# Altium integrated library IR Rectifier - Standard Recovery.IntLib: 457 symbols (part 1 of 5)
Pins are listed as number, name and electrical type; pins without a type are passive.

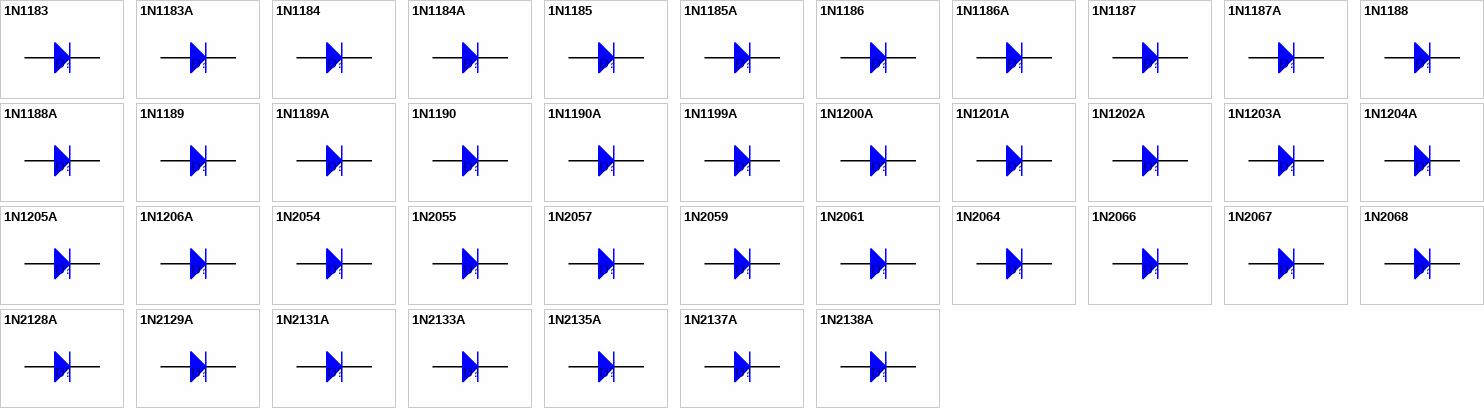
[diagram p0: symbols 1N1183 to 1N2138A]

## 1N1183
designator D?
Silicon Rectifier Diode; Note: No PCB Footprint Available; Published: 8-Jun-2000; LatestRevisionDate: 17-Jul-2002; LatestRevisionNote: Re-released for DXP Platform.; DatasheetDocument: PD-2.087; PackageReference: DO-203AB; Publisher: Altium Limited; ComponentLink1Description: Manufacturer Link; ComponentLink1URL: http://www.irf.com/; ComponentLink2Description: Datasheet; ComponentLink2URL: http://www.irf.com/product-info/datasheets/data/1n1183.pdf
simulation model 1N1183 (DIODE)
signal-integrity model 1N1183
pins: 1 A, 2 K

## 1N1183A
designator D?
Silicon Rectifier Diode; Note: No PCB Footprint Available; Published: 8-Jun-2000; LatestRevisionDate: 17-Jul-2002; LatestRevisionNote: Re-released for DXP Platform.; DatasheetDocument: PD-2.087; PackageReference: DO-203AB; Publisher: Altium Limited; ComponentLink1Description: Manufacturer Link; ComponentLink1URL: http://www.irf.com/; ComponentLink2Description: Datasheet; ComponentLink2URL: http://www.irf.com/product-info/datasheets/data/1n1183.pdf
simulation model 1N1183A (DIODE)
signal-integrity model 1N1183A
pins: 1 A, 2 K

## 1N1184
designator D?
Silicon Rectifier Diode; Note: No PCB Footprint Available; Published: 8-Jun-2000; LatestRevisionDate: 17-Jul-2002; LatestRevisionNote: Re-released for DXP Platform.; DatasheetDocument: PD-2.087; PackageReference: DO-203AB; Publisher: Altium Limited; ComponentLink1Description: Manufacturer Link; ComponentLink1URL: http://www.irf.com/; ComponentLink2Description: Datasheet; ComponentLink2URL: http://www.irf.com/product-info/datasheets/data/1n1183.pdf
simulation model 1N1184 (DIODE)
signal-integrity model 1N1184
pins: 1 A, 2 K

## 1N1184A
designator D?
Silicon Rectifier Diode; Note: No PCB Footprint Available; Published: 8-Jun-2000; LatestRevisionDate: 17-Jul-2002; LatestRevisionNote: Re-released for DXP Platform.; DatasheetDocument: PD-2.087; PackageReference: DO-203AB; Publisher: Altium Limited; ComponentLink1Description: Manufacturer Link; ComponentLink1URL: http://www.irf.com/; ComponentLink2Description: Datasheet; ComponentLink2URL: http://www.irf.com/product-info/datasheets/data/1n1183.pdf
simulation model 1N1184A (DIODE)
signal-integrity model 1N1184A
pins: 1 A, 2 K

## 1N1185
designator D?
Silicon Rectifier Diode; Note: No PCB Footprint Available; Published: 8-Jun-2000; LatestRevisionDate: 17-Jul-2002; LatestRevisionNote: Re-released for DXP Platform.; DatasheetDocument: PD-2.087; PackageReference: DO-203AB; Publisher: Altium Limited; ComponentLink1Description: Manufacturer Link; ComponentLink1URL: http://www.irf.com/; ComponentLink2Description: Datasheet; ComponentLink2URL: http://www.irf.com/product-info/datasheets/data/1n1183.pdf
simulation model 1N1185 (DIODE)
signal-integrity model 1N1185
pins: 1 A, 2 K

## 1N1185A
designator D?
Silicon Rectifier Diode; Note: No PCB Footprint Available; Published: 8-Jun-2000; LatestRevisionDate: 17-Jul-2002; LatestRevisionNote: Re-released for DXP Platform.; DatasheetDocument: PD-2.087; PackageReference: DO-203AB; Publisher: Altium Limited; ComponentLink1Description: Manufacturer Link; ComponentLink1URL: http://www.irf.com/; ComponentLink2Description: Datasheet; ComponentLink2URL: http://www.irf.com/product-info/datasheets/data/1n1183.pdf
simulation model 1N1185A (DIODE)
signal-integrity model 1N1185A
pins: 1 A, 2 K

## 1N1186
designator D?
Silicon Rectifier Diode; Note: No PCB Footprint Available; Published: 8-Jun-2000; LatestRevisionDate: 17-Jul-2002; LatestRevisionNote: Re-released for DXP Platform.; DatasheetDocument: PD-2.087; PackageReference: DO-203AB; Publisher: Altium Limited; ComponentLink1Description: Manufacturer Link; ComponentLink1URL: http://www.irf.com/; ComponentLink2Description: Datasheet; ComponentLink2URL: http://www.irf.com/product-info/datasheets/data/1n1183.pdf
simulation model 1N1186 (DIODE)
signal-integrity model 1N1186
pins: 1 A, 2 K

## 1N1186A
designator D?
Silicon Rectifier Diode; Note: No PCB Footprint Available; Published: 8-Jun-2000; LatestRevisionDate: 17-Jul-2002; LatestRevisionNote: Re-released for DXP Platform.; DatasheetDocument: PD-2.087; PackageReference: DO-203AB; Publisher: Altium Limited; ComponentLink1Description: Manufacturer Link; ComponentLink1URL: http://www.irf.com/; ComponentLink2Description: Datasheet; ComponentLink2URL: http://www.irf.com/product-info/datasheets/data/1n1183.pdf
simulation model 1N1186A (DIODE)
signal-integrity model 1N1186A
pins: 1 A, 2 K

## 1N1187
designator D?
Silicon Rectifier Diode; Note: No PCB Footprint Available; Published: 8-Jun-2000; LatestRevisionDate: 17-Jul-2002; LatestRevisionNote: Re-released for DXP Platform.; DatasheetDocument: PD-2.087; PackageReference: DO-203AB; Publisher: Altium Limited; ComponentLink1Description: Manufacturer Link; ComponentLink1URL: http://www.irf.com/; ComponentLink2Description: Datasheet; ComponentLink2URL: http://www.irf.com/product-info/datasheets/data/1n1183.pdf
simulation model 1N1187 (DIODE)
signal-integrity model 1N1187
pins: 1 A, 2 K

## 1N1187A
designator D?
Silicon Rectifier Diode; Note: No PCB Footprint Available; Published: 8-Jun-2000; LatestRevisionDate: 17-Jul-2002; LatestRevisionNote: Re-released for DXP Platform.; DatasheetDocument: PD-2.087; PackageReference: DO-203AB; Publisher: Altium Limited; ComponentLink1Description: Manufacturer Link; ComponentLink1URL: http://www.irf.com/; ComponentLink2Description: Datasheet; ComponentLink2URL: http://www.irf.com/product-info/datasheets/data/1n1183.pdf
simulation model 1N1187A (DIODE)
signal-integrity model 1N1187A
pins: 1 A, 2 K

## 1N1188
designator D?
Silicon Rectifier Diode; Note: No PCB Footprint Available; Published: 8-Jun-2000; LatestRevisionDate: 17-Jul-2002; LatestRevisionNote: Re-released for DXP Platform.; DatasheetDocument: PD-2.087; PackageReference: DO-203AB; Publisher: Altium Limited; ComponentLink1Description: Manufacturer Link; ComponentLink1URL: http://www.irf.com/; ComponentLink2Description: Datasheet; ComponentLink2URL: http://www.irf.com/product-info/datasheets/data/1n1183.pdf
simulation model 1N1188 (DIODE)
signal-integrity model 1N1188
pins: 1 A, 2 K

## 1N1188A
designator D?
Silicon Rectifier Diode; Note: No PCB Footprint Available; Published: 8-Jun-2000; LatestRevisionDate: 17-Jul-2002; LatestRevisionNote: Re-released for DXP Platform.; DatasheetDocument: PD-2.087; PackageReference: DO-203AB; Publisher: Altium Limited; ComponentLink1Description: Manufacturer Link; ComponentLink1URL: http://www.irf.com/; ComponentLink2Description: Datasheet; ComponentLink2URL: http://www.irf.com/product-info/datasheets/data/1n1183.pdf
simulation model 1N1188A (DIODE)
signal-integrity model 1N1188A
pins: 1 A, 2 K

## 1N1189
designator D?
Silicon Rectifier Diode; Note: No PCB Footprint Available; Published: 8-Jun-2000; LatestRevisionDate: 17-Jul-2002; LatestRevisionNote: Re-released for DXP Platform.; DatasheetDocument: PD-2.087; PackageReference: DO-203AB; Publisher: Altium Limited; ComponentLink1Description: Manufacturer Link; ComponentLink1URL: http://www.irf.com/; ComponentLink2Description: Datasheet; ComponentLink2URL: http://www.irf.com/product-info/datasheets/data/1n1183.pdf
simulation model 1N1189 (DIODE)
signal-integrity model 1N1189
pins: 1 A, 2 K

## 1N1189A
designator D?
Silicon Rectifier Diode; Note: No PCB Footprint Available; Published: 8-Jun-2000; LatestRevisionDate: 17-Jul-2002; LatestRevisionNote: Re-released for DXP Platform.; DatasheetDocument: PD-2.087; PackageReference: DO-203AB; Publisher: Altium Limited; ComponentLink1Description: Manufacturer Link; ComponentLink1URL: http://www.irf.com/; ComponentLink2Description: Datasheet; ComponentLink2URL: http://www.irf.com/product-info/datasheets/data/1n1183.pdf
simulation model 1N1189A (DIODE)
signal-integrity model 1N1189A
pins: 1 A, 2 K

## 1N1190
designator D?
Silicon Rectifier Diode; Note: No PCB Footprint Available; Published: 8-Jun-2000; LatestRevisionDate: 17-Jul-2002; LatestRevisionNote: Re-released for DXP Platform.; DatasheetDocument: PD-2.087; PackageReference: DO-203AB; Publisher: Altium Limited; ComponentLink1Description: Manufacturer Link; ComponentLink1URL: http://www.irf.com/; ComponentLink2Description: Datasheet; ComponentLink2URL: http://www.irf.com/product-info/datasheets/data/1n1183.pdf
simulation model 1N1190 (DIODE)
signal-integrity model 1N1190
pins: 1 A, 2 K

## 1N1190A
designator D?
Silicon Rectifier Diode; Note: No PCB Footprint Available; Published: 8-Jun-2000; LatestRevisionDate: 17-Jul-2002; LatestRevisionNote: Re-released for DXP Platform.; DatasheetDocument: PD-2.087; PackageReference: DO-203AB; Publisher: Altium Limited; ComponentLink1Description: Manufacturer Link; ComponentLink1URL: http://www.irf.com/; ComponentLink2Description: Datasheet; ComponentLink2URL: http://www.irf.com/product-info/datasheets/data/1n1183.pdf
simulation model 1N1190A (DIODE)
signal-integrity model 1N1190A
pins: 1 A, 2 K

## 1N1199A
designator D?
12 Amp Medium Power Silicon Rectifier Diode; Note: No PCB Footprint Available; Published: 8-Jun-2000; LatestRevisionDate: 17-Jul-2002; LatestRevisionNote: Re-released for DXP Platform.; DatasheetDocument: PD-2.084; PackageReference: DO-203AA; Publisher: Altium Limited; ComponentLink1Description: Manufacturer Link; ComponentLink1URL: http://www.irf.com/; ComponentLink2Description: Datasheet; ComponentLink2URL: http://www.irf.com/product-info/datasheets/data/1n1199a.pdf
simulation model 1N1199A (DIODE)
signal-integrity model 1N1199A
pins: 1 A, 2 K

## 1N1200A
designator D?
12 Amp Medium Power Silicon Rectifier Diode; Note: No PCB Footprint Available; Published: 8-Jun-2000; LatestRevisionDate: 17-Jul-2002; LatestRevisionNote: Re-released for DXP Platform.; DatasheetDocument: PD-2.084; PackageReference: DO-203AA; Publisher: Altium Limited; ComponentLink1Description: Manufacturer Link; ComponentLink1URL: http://www.irf.com/; ComponentLink2Description: Datasheet; ComponentLink2URL: http://www.irf.com/product-info/datasheets/data/1n1199a.pdf
simulation model 1N1200A (DIODE)
signal-integrity model 1N1200A
pins: 1 A, 2 K

## 1N1201A
designator D?
12 Amp Medium Power Silicon Rectifier Diode; Note: No PCB Footprint Available; Published: 8-Jun-2000; LatestRevisionDate: 17-Jul-2002; LatestRevisionNote: Re-released for DXP Platform.; DatasheetDocument: PD-2.084; PackageReference: DO-203AA; Publisher: Altium Limited; ComponentLink1Description: Manufacturer Link; ComponentLink1URL: http://www.irf.com/; ComponentLink2Description: Datasheet; ComponentLink2URL: http://www.irf.com/product-info/datasheets/data/1n1199a.pdf
simulation model 1N1201A (DIODE)
signal-integrity model 1N1201A
pins: 1 A, 2 K

## 1N1202A
designator D?
12 Amp Medium Power Silicon Rectifier Diode; Note: No PCB Footprint Available; Published: 8-Jun-2000; LatestRevisionDate: 17-Jul-2002; LatestRevisionNote: Re-released for DXP Platform.; DatasheetDocument: PD-2.084; PackageReference: DO-203AA; Publisher: Altium Limited; ComponentLink1Description: Manufacturer Link; ComponentLink1URL: http://www.irf.com/; ComponentLink2Description: Datasheet; ComponentLink2URL: http://www.irf.com/product-info/datasheets/data/1n1199a.pdf
simulation model 1N1202A (DIODE)
signal-integrity model 1N1202A
pins: 1 A, 2 K

## 1N1203A
designator D?
12 Amp Medium Power Silicon Rectifier Diode; Note: No PCB Footprint Available; Published: 8-Jun-2000; LatestRevisionDate: 17-Jul-2002; LatestRevisionNote: Re-released for DXP Platform.; DatasheetDocument: PD-2.084; PackageReference: DO-203AA; Publisher: Altium Limited; ComponentLink1Description: Manufacturer Link; ComponentLink1URL: http://www.irf.com/; ComponentLink2Description: Datasheet; ComponentLink2URL: http://www.irf.com/product-info/datasheets/data/1n1199a.pdf
simulation model 1N1203A (DIODE)
signal-integrity model 1N1203A
pins: 1 A, 2 K

## 1N1204A
designator D?
12 Amp Medium Power Silicon Rectifier Diode; Note: No PCB Footprint Available; Published: 8-Jun-2000; LatestRevisionDate: 17-Jul-2002; LatestRevisionNote: Re-released for DXP Platform.; DatasheetDocument: PD-2.084; PackageReference: DO-203AA; Publisher: Altium Limited; ComponentLink1Description: Manufacturer Link; ComponentLink1URL: http://www.irf.com/; ComponentLink2Description: Datasheet; ComponentLink2URL: http://www.irf.com/product-info/datasheets/data/1n1199a.pdf
simulation model 1N1204A (DIODE)
signal-integrity model 1N1204A
pins: 1 A, 2 K

## 1N1205A
designator D?
12 Amp Medium Power Silicon Rectifier Diode; Note: No PCB Footprint Available; Published: 8-Jun-2000; LatestRevisionDate: 17-Jul-2002; LatestRevisionNote: Re-released for DXP Platform.; DatasheetDocument: PD-2.084; PackageReference: DO-203AA; Publisher: Altium Limited; ComponentLink1Description: Manufacturer Link; ComponentLink1URL: http://www.irf.com/; ComponentLink2Description: Datasheet; ComponentLink2URL: http://www.irf.com/product-info/datasheets/data/1n1199a.pdf
simulation model 1N1205A (DIODE)
signal-integrity model 1N1205A
pins: 1 A, 2 K

## 1N1206A
designator D?
12 Amp Medium Power Silicon Rectifier Diode; Note: No PCB Footprint Available; Published: 8-Jun-2000; LatestRevisionDate: 17-Jul-2002; LatestRevisionNote: Re-released for DXP Platform.; DatasheetDocument: PD-2.084; PackageReference: DO-203AA; Publisher: Altium Limited; ComponentLink1Description: Manufacturer Link; ComponentLink1URL: http://www.irf.com/; ComponentLink2Description: Datasheet; ComponentLink2URL: http://www.irf.com/product-info/datasheets/data/1n1199a.pdf
simulation model 1N1206A (DIODE)
signal-integrity model 1N1206A
pins: 1 A, 2 K

## 1N2054
designator D?
250 Amp Avg Power Silicon Rectifier Diode; Note: No PCB Footprint Available; Published: 8-Jun-2000; LatestRevisionDate: 17-Jul-2002; LatestRevisionNote: Re-released for DXP Platform.; DatasheetDocument: PD-2.018C; PackageReference: DO-205AB; Publisher: Altium Limited; ComponentLink1Description: Manufacturer Link; ComponentLink1URL: http://www.irf.com/; ComponentLink2Description: Datasheet; ComponentLink2URL: http://www.irf.com/product-info/datasheets/data/1n2054.pdf
simulation model 1N2054 (DIODE)
signal-integrity model 1N2054
pins: 1 A, 2 K

## 1N2055
designator D?
250 Amp Avg Power Silicon Rectifier Diode; Note: No PCB Footprint Available; Published: 8-Jun-2000; LatestRevisionDate: 17-Jul-2002; LatestRevisionNote: Re-released for DXP Platform.; DatasheetDocument: PD-2.018C; PackageReference: DO-205AB; Publisher: Altium Limited; ComponentLink1Description: Manufacturer Link; ComponentLink1URL: http://www.irf.com/; ComponentLink2Description: Datasheet; ComponentLink2URL: http://www.irf.com/product-info/datasheets/data/1n2054.pdf
simulation model 1N2055 (DIODE)
signal-integrity model 1N2055
pins: 1 A, 2 K

## 1N2057
designator D?
250 Amp Avg Power Silicon Rectifier Diode; Note: No PCB Footprint Available; Published: 8-Jun-2000; LatestRevisionDate: 17-Jul-2002; LatestRevisionNote: Re-released for DXP Platform.; DatasheetDocument: PD-2.018C; PackageReference: DO-205AB; Publisher: Altium Limited; ComponentLink1Description: Manufacturer Link; ComponentLink1URL: http://www.irf.com/; ComponentLink2Description: Datasheet; ComponentLink2URL: http://www.irf.com/product-info/datasheets/data/1n2054.pdf
simulation model 1N2057 (DIODE)
signal-integrity model 1N2057
pins: 1 A, 2 K

## 1N2059
designator D?
250 Amp Avg Power Silicon Rectifier Diode; Note: No PCB Footprint Available; Published: 8-Jun-2000; LatestRevisionDate: 17-Jul-2002; LatestRevisionNote: Re-released for DXP Platform.; DatasheetDocument: PD-2.018C; PackageReference: DO-205AB; Publisher: Altium Limited; ComponentLink1Description: Manufacturer Link; ComponentLink1URL: http://www.irf.com/; ComponentLink2Description: Datasheet; ComponentLink2URL: http://www.irf.com/product-info/datasheets/data/1n2054.pdf
simulation model 1N2059 (DIODE)
signal-integrity model 1N2059
pins: 1 A, 2 K

## 1N2061
designator D?
250 Amp Avg Power Silicon Rectifier Diode; Note: No PCB Footprint Available; Published: 8-Jun-2000; LatestRevisionDate: 17-Jul-2002; LatestRevisionNote: Re-released for DXP Platform.; DatasheetDocument: PD-2.018C; PackageReference: DO-205AB; Publisher: Altium Limited; ComponentLink1Description: Manufacturer Link; ComponentLink1URL: http://www.irf.com/; ComponentLink2Description: Datasheet; ComponentLink2URL: http://www.irf.com/product-info/datasheets/data/1n2054.pdf
simulation model 1N2061 (DIODE)
signal-integrity model 1N2061
pins: 1 A, 2 K

## 1N2064
designator D?
250 Amp Avg Power Silicon Rectifier Diode; Note: No PCB Footprint Available; Published: 8-Jun-2000; LatestRevisionDate: 17-Jul-2002; LatestRevisionNote: Re-released for DXP Platform.; DatasheetDocument: PD-2.018C; PackageReference: DO-205AB; Publisher: Altium Limited; ComponentLink1Description: Manufacturer Link; ComponentLink1URL: http://www.irf.com/; ComponentLink2Description: Datasheet; ComponentLink2URL: http://www.irf.com/product-info/datasheets/data/1n2054.pdf
simulation model 1N2064 (DIODE)
signal-integrity model 1N2064
pins: 1 A, 2 K

## 1N2066
designator D?
250 Amp Avg Power Silicon Rectifier Diode; Note: No PCB Footprint Available; Published: 8-Jun-2000; LatestRevisionDate: 17-Jul-2002; LatestRevisionNote: Re-released for DXP Platform.; DatasheetDocument: PD-2.018C; PackageReference: DO-205AB; Publisher: Altium Limited; ComponentLink1Description: Manufacturer Link; ComponentLink1URL: http://www.irf.com/; ComponentLink2Description: Datasheet; ComponentLink2URL: http://www.irf.com/product-info/datasheets/data/1n2054.pdf
simulation model 1N2066 (DIODE)
signal-integrity model 1N2066
pins: 1 A, 2 K

## 1N2067
designator D?
250 Amp Avg Power Silicon Rectifier Diode; Note: No PCB Footprint Available; Published: 8-Jun-2000; LatestRevisionDate: 17-Jul-2002; LatestRevisionNote: Re-released for DXP Platform.; DatasheetDocument: PD-2.018C; PackageReference: DO-205AB; Publisher: Altium Limited; ComponentLink1Description: Manufacturer Link; ComponentLink1URL: http://www.irf.com/; ComponentLink2Description: Datasheet; ComponentLink2URL: http://www.irf.com/product-info/datasheets/data/1n2054.pdf
simulation model 1N2067 (DIODE)
signal-integrity model 1N2067
pins: 1 A, 2 K

## 1N2068
designator D?
250 Amp Avg Power Silicon Rectifier Diode; Note: No PCB Footprint Available; Published: 8-Jun-2000; LatestRevisionDate: 17-Jul-2002; LatestRevisionNote: Re-released for DXP Platform.; DatasheetDocument: PD-2.018C; PackageReference: DO-205AB; Publisher: Altium Limited; ComponentLink1Description: Manufacturer Link; ComponentLink1URL: http://www.irf.com/; ComponentLink2Description: Datasheet; ComponentLink2URL: http://www.irf.com/product-info/datasheets/data/1n2054.pdf
simulation model 1N2068 (DIODE)
signal-integrity model 1N2068
pins: 1 A, 2 K

## 1N2128A
designator D?
Silicon Rectifier Diode; Note: No PCB Footprint Available; Published: 8-Jun-2000; LatestRevisionDate: 17-Jul-2002; LatestRevisionNote: Re-released for DXP Platform.; DatasheetDocument: PD-2.087; PackageReference: DO-203AB; Publisher: Altium Limited; ComponentLink1Description: Manufacturer Link; ComponentLink1URL: http://www.irf.com/; ComponentLink2Description: Datasheet; ComponentLink2URL: http://www.irf.com/product-info/datasheets/data/1n1183.pdf
simulation model 1N2128A (DIODE)
signal-integrity model 1N2128A
pins: 1 A, 2 K

## 1N2129A
designator D?
Silicon Rectifier Diode; Note: No PCB Footprint Available; Published: 8-Jun-2000; LatestRevisionDate: 17-Jul-2002; LatestRevisionNote: Re-released for DXP Platform.; DatasheetDocument: PD-2.087; PackageReference: DO-203AB; Publisher: Altium Limited; ComponentLink1Description: Manufacturer Link; ComponentLink1URL: http://www.irf.com/; ComponentLink2Description: Datasheet; ComponentLink2URL: http://www.irf.com/product-info/datasheets/data/1n1183.pdf
simulation model 1N2129A (DIODE)
signal-integrity model 1N2129A
pins: 1 A, 2 K

## 1N2131A
designator D?
Silicon Rectifier Diode; Note: No PCB Footprint Available; Published: 8-Jun-2000; LatestRevisionDate: 17-Jul-2002; LatestRevisionNote: Re-released for DXP Platform.; DatasheetDocument: PD-2.087; PackageReference: DO-203AB; Publisher: Altium Limited; ComponentLink1Description: Manufacturer Link; ComponentLink1URL: http://www.irf.com/; ComponentLink2Description: Datasheet; ComponentLink2URL: http://www.irf.com/product-info/datasheets/data/1n1183.pdf
simulation model 1N2131A (DIODE)
signal-integrity model 1N2131A
pins: 1 A, 2 K

## 1N2133A
designator D?
Silicon Rectifier Diode; Note: No PCB Footprint Available; Published: 8-Jun-2000; LatestRevisionDate: 17-Jul-2002; LatestRevisionNote: Re-released for DXP Platform.; DatasheetDocument: PD-2.087; PackageReference: DO-203AB; Publisher: Altium Limited; ComponentLink1Description: Manufacturer Link; ComponentLink1URL: http://www.irf.com/; ComponentLink2Description: Datasheet; ComponentLink2URL: http://www.irf.com/product-info/datasheets/data/1n1183.pdf
simulation model 1N2133A (DIODE)
signal-integrity model 1N2133A
pins: 1 A, 2 K

## 1N2135A
designator D?
Silicon Rectifier Diode; Note: No PCB Footprint Available; Published: 8-Jun-2000; LatestRevisionDate: 17-Jul-2002; LatestRevisionNote: Re-released for DXP Platform.; DatasheetDocument: PD-2.087; PackageReference: DO-203AB; Publisher: Altium Limited; ComponentLink1Description: Manufacturer Link; ComponentLink1URL: http://www.irf.com/; ComponentLink2Description: Datasheet; ComponentLink2URL: http://www.irf.com/product-info/datasheets/data/1n1183.pdf
simulation model 1N2135A (DIODE)
signal-integrity model 1N2135A
pins: 1 A, 2 K

## 1N2137A
designator D?
Silicon Rectifier Diode; Note: No PCB Footprint Available; Published: 8-Jun-2000; LatestRevisionDate: 17-Jul-2002; LatestRevisionNote: Re-released for DXP Platform.; DatasheetDocument: PD-2.087; PackageReference: DO-203AB; Publisher: Altium Limited; ComponentLink1Description: Manufacturer Link; ComponentLink1URL: http://www.irf.com/; ComponentLink2Description: Datasheet; ComponentLink2URL: http://www.irf.com/product-info/datasheets/data/1n1183.pdf
simulation model 1N2137A (DIODE)
signal-integrity model 1N2137A
pins: 1 A, 2 K

## 1N2138A
designator D?
Silicon Rectifier Diode; Note: No PCB Footprint Available; Published: 8-Jun-2000; LatestRevisionDate: 17-Jul-2002; LatestRevisionNote: Re-released for DXP Platform.; DatasheetDocument: PD-2.087; PackageReference: DO-203AB; Publisher: Altium Limited; ComponentLink1Description: Manufacturer Link; ComponentLink1URL: http://www.irf.com/; ComponentLink2Description: Datasheet; ComponentLink2URL: http://www.irf.com/product-info/datasheets/data/1n1183.pdf
simulation model 1N2138A (DIODE)
signal-integrity model 1N2138A
pins: 1 A, 2 K

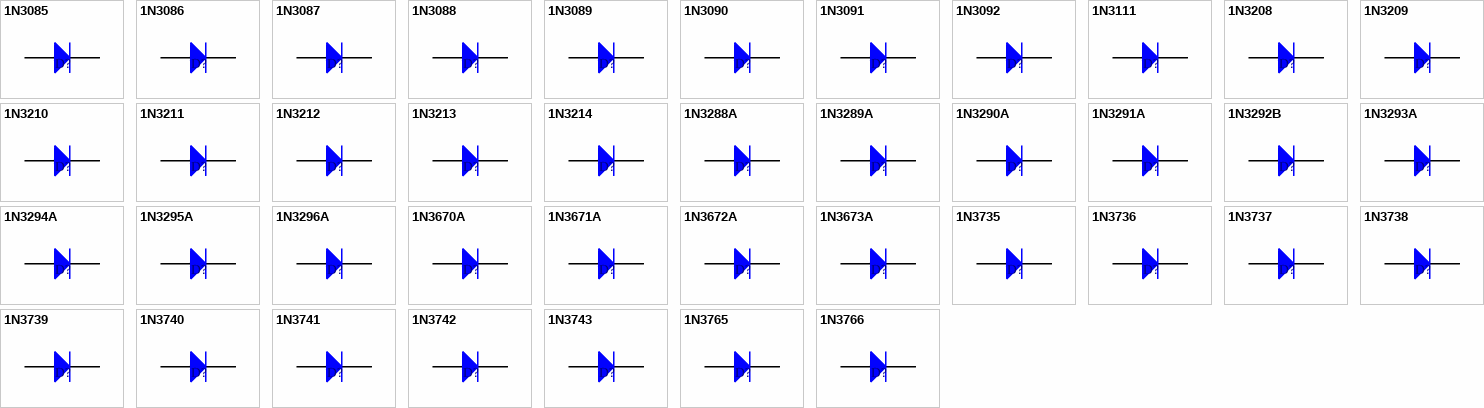
[diagram p1: symbols 1N3085 to 1N3766]

## 1N3085
designator D?
150 Amp Avg Power Silicon Rectifier Diode; Note: No PCB Footprint Available; Published: 8-Jun-2000; LatestRevisionDate: 17-Jul-2002; LatestRevisionNote: Re-released for DXP Platform.; DatasheetDocument: PD-2.089; PackageReference: DO-205AC; Publisher: Altium Limited; ComponentLink1Description: Manufacturer Link; ComponentLink1URL: http://www.irf.com/; ComponentLink2Description: Datasheet; ComponentLink2URL: http://www.irf.com/product-info/datasheets/data/1n3085.pdf
simulation model 1N3085 (DIODE)
signal-integrity model 1N3085
pins: 1 A, 2 K

## 1N3086
designator D?
150 Amp Avg Power Silicon Rectifier Diode; Note: No PCB Footprint Available; Published: 8-Jun-2000; LatestRevisionDate: 17-Jul-2002; LatestRevisionNote: Re-released for DXP Platform.; DatasheetDocument: PD-2.089; PackageReference: DO-205AC; Publisher: Altium Limited; ComponentLink1Description: Manufacturer Link; ComponentLink1URL: http://www.irf.com/; ComponentLink2Description: Datasheet; ComponentLink2URL: http://www.irf.com/product-info/datasheets/data/1n3085.pdf
simulation model 1N3086 (DIODE)
signal-integrity model 1N3086
pins: 1 A, 2 K

## 1N3087
designator D?
150 Amp Avg Power Silicon Rectifier Diode; Note: No PCB Footprint Available; Published: 8-Jun-2000; LatestRevisionDate: 17-Jul-2002; LatestRevisionNote: Re-released for DXP Platform.; DatasheetDocument: PD-2.089; PackageReference: DO-205AC; Publisher: Altium Limited; ComponentLink1Description: Manufacturer Link; ComponentLink1URL: http://www.irf.com/; ComponentLink2Description: Datasheet; ComponentLink2URL: http://www.irf.com/product-info/datasheets/data/1n3085.pdf
simulation model 1N3087 (DIODE)
signal-integrity model 1N3087
pins: 1 A, 2 K

## 1N3088
designator D?
150 Amp Avg Power Silicon Rectifier Diode; Note: No PCB Footprint Available; Published: 8-Jun-2000; LatestRevisionDate: 17-Jul-2002; LatestRevisionNote: Re-released for DXP Platform.; DatasheetDocument: PD-2.089; PackageReference: DO-205AC; Publisher: Altium Limited; ComponentLink1Description: Manufacturer Link; ComponentLink1URL: http://www.irf.com/; ComponentLink2Description: Datasheet; ComponentLink2URL: http://www.irf.com/product-info/datasheets/data/1n3085.pdf
simulation model 1N3088 (DIODE)
signal-integrity model 1N3088
pins: 1 A, 2 K

## 1N3089
designator D?
150 Amp Avg Power Silicon Rectifier Diode; Note: No PCB Footprint Available; Published: 8-Jun-2000; LatestRevisionDate: 17-Jul-2002; LatestRevisionNote: Re-released for DXP Platform.; DatasheetDocument: PD-2.089; PackageReference: DO-205AC; Publisher: Altium Limited; ComponentLink1Description: Manufacturer Link; ComponentLink1URL: http://www.irf.com/; ComponentLink2Description: Datasheet; ComponentLink2URL: http://www.irf.com/product-info/datasheets/data/1n3085.pdf
simulation model 1N3089 (DIODE)
signal-integrity model 1N3089
pins: 1 A, 2 K

## 1N3090
designator D?
150 Amp Avg Power Silicon Rectifier Diode; Note: No PCB Footprint Available; Published: 8-Jun-2000; LatestRevisionDate: 17-Jul-2002; LatestRevisionNote: Re-released for DXP Platform.; DatasheetDocument: PD-2.089; PackageReference: DO-205AC; Publisher: Altium Limited; ComponentLink1Description: Manufacturer Link; ComponentLink1URL: http://www.irf.com/; ComponentLink2Description: Datasheet; ComponentLink2URL: http://www.irf.com/product-info/datasheets/data/1n3085.pdf
simulation model 1N3090 (DIODE)
signal-integrity model 1N3090
pins: 1 A, 2 K

## 1N3091
designator D?
150 Amp Avg Power Silicon Rectifier Diode; Note: No PCB Footprint Available; Published: 8-Jun-2000; LatestRevisionDate: 17-Jul-2002; LatestRevisionNote: Re-released for DXP Platform.; DatasheetDocument: PD-2.089; PackageReference: DO-205AC; Publisher: Altium Limited; ComponentLink1Description: Manufacturer Link; ComponentLink1URL: http://www.irf.com/; ComponentLink2Description: Datasheet; ComponentLink2URL: http://www.irf.com/product-info/datasheets/data/1n3085.pdf
simulation model 1N3091 (DIODE)
signal-integrity model 1N3091
pins: 1 A, 2 K

## 1N3092
designator D?
150 Amp Avg Power Silicon Rectifier Diode; Note: No PCB Footprint Available; Published: 8-Jun-2000; LatestRevisionDate: 17-Jul-2002; LatestRevisionNote: Re-released for DXP Platform.; DatasheetDocument: PD-2.089; PackageReference: DO-205AC; Publisher: Altium Limited; ComponentLink1Description: Manufacturer Link; ComponentLink1URL: http://www.irf.com/; ComponentLink2Description: Datasheet; ComponentLink2URL: http://www.irf.com/product-info/datasheets/data/1n3085.pdf
simulation model 1N3092 (DIODE)
signal-integrity model 1N3092
pins: 1 A, 2 K

## 1N3111
designator D?
150 Amp Avg Power Silicon Rectifier Diode; Note: No PCB Footprint Available; Published: 8-Jun-2000; LatestRevisionDate: 17-Jul-2002; LatestRevisionNote: Re-released for DXP Platform.; DatasheetDocument: PD-2.089; PackageReference: DO-205AC; Publisher: Altium Limited; ComponentLink1Description: Manufacturer Link; ComponentLink1URL: http://www.irf.com/; ComponentLink2Description: Datasheet; ComponentLink2URL: http://www.irf.com/product-info/datasheets/data/1n3085.pdf
simulation model 1N3111 (DIODE)
signal-integrity model 1N3111
pins: 1 A, 2 K

## 1N3208
designator D?
15 Amp Stud-Mounted Silicon Rectifier Diode; Note: No PCB Footprint Available; Published: 8-Jun-2000; LatestRevisionDate: 17-Jul-2002; LatestRevisionNote: Re-released for DXP Platform.; DatasheetDocument: PD-2.010C; PackageReference: DO-203AB; Publisher: Altium Limited; ComponentLink1Description: Manufacturer Link; ComponentLink1URL: http://www.irf.com/; ComponentLink2Description: Datasheet; ComponentLink2URL: http://www.irf.com/product-info/datasheets/data/1n3208.pdf
simulation model 1N3208 (DIODE)
signal-integrity model 1N3208
pins: 1 A, 2 K

## 1N3209
designator D?
15 Amp Stud-Mounted Silicon Rectifier Diode; Note: No PCB Footprint Available; Published: 8-Jun-2000; LatestRevisionDate: 17-Jul-2002; LatestRevisionNote: Re-released for DXP Platform.; DatasheetDocument: PD-2.010C; PackageReference: DO-203AB; Publisher: Altium Limited; ComponentLink1Description: Manufacturer Link; ComponentLink1URL: http://www.irf.com/; ComponentLink2Description: Datasheet; ComponentLink2URL: http://www.irf.com/product-info/datasheets/data/1n3208.pdf
simulation model 1N3209 (DIODE)
signal-integrity model 1N3209
pins: 1 A, 2 K

## 1N3210
designator D?
15 Amp Stud-Mounted Silicon Rectifier Diode; Note: No PCB Footprint Available; Published: 8-Jun-2000; LatestRevisionDate: 17-Jul-2002; LatestRevisionNote: Re-released for DXP Platform.; DatasheetDocument: PD-2.010C; PackageReference: DO-203AB; Publisher: Altium Limited; ComponentLink1Description: Manufacturer Link; ComponentLink1URL: http://www.irf.com/; ComponentLink2Description: Datasheet; ComponentLink2URL: http://www.irf.com/product-info/datasheets/data/1n3208.pdf
simulation model 1N3210 (DIODE)
signal-integrity model 1N3210
pins: 1 A, 2 K

## 1N3211
designator D?
15 Amp Stud-Mounted Silicon Rectifier Diode; Note: No PCB Footprint Available; Published: 8-Jun-2000; LatestRevisionDate: 17-Jul-2002; LatestRevisionNote: Re-released for DXP Platform.; DatasheetDocument: PD-2.010C; PackageReference: DO-203AB; Publisher: Altium Limited; ComponentLink1Description: Manufacturer Link; ComponentLink1URL: http://www.irf.com/; ComponentLink2Description: Datasheet; ComponentLink2URL: http://www.irf.com/product-info/datasheets/data/1n3208.pdf
simulation model 1N3211 (DIODE)
signal-integrity model 1N3211
pins: 1 A, 2 K

## 1N3212
designator D?
15 Amp Stud-Mounted Silicon Rectifier Diode; Note: No PCB Footprint Available; Published: 8-Jun-2000; LatestRevisionDate: 17-Jul-2002; LatestRevisionNote: Re-released for DXP Platform.; DatasheetDocument: PD-2.010C; PackageReference: DO-203AB; Publisher: Altium Limited; ComponentLink1Description: Manufacturer Link; ComponentLink1URL: http://www.irf.com/; ComponentLink2Description: Datasheet; ComponentLink2URL: http://www.irf.com/product-info/datasheets/data/1n3208.pdf
simulation model 1N3212 (DIODE)
signal-integrity model 1N3212
pins: 1 A, 2 K

## 1N3213
designator D?
15 Amp Stud-Mounted Silicon Rectifier Diode; Note: No PCB Footprint Available; Published: 8-Jun-2000; LatestRevisionDate: 17-Jul-2002; LatestRevisionNote: Re-released for DXP Platform.; DatasheetDocument: PD-2.010C; PackageReference: DO-203AB; Publisher: Altium Limited; ComponentLink1Description: Manufacturer Link; ComponentLink1URL: http://www.irf.com/; ComponentLink2Description: Datasheet; ComponentLink2URL: http://www.irf.com/product-info/datasheets/data/1n3208.pdf
simulation model 1N3213 (DIODE)
signal-integrity model 1N3213
pins: 1 A, 2 K

## 1N3214
designator D?
15 Amp Stud-Mounted Silicon Rectifier Diode; Note: No PCB Footprint Available; Published: 8-Jun-2000; LatestRevisionDate: 17-Jul-2002; LatestRevisionNote: Re-released for DXP Platform.; DatasheetDocument: PD-2.010C; PackageReference: DO-203AB; Publisher: Altium Limited; ComponentLink1Description: Manufacturer Link; ComponentLink1URL: http://www.irf.com/; ComponentLink2Description: Datasheet; ComponentLink2URL: http://www.irf.com/product-info/datasheets/data/1n3208.pdf
simulation model 1N3214 (DIODE)
signal-integrity model 1N3214
pins: 1 A, 2 K

## 1N3288A
designator D?
100 Amp Average Silicon Rectifier Diode; Note: No PCB Footprint Available; Published: 8-Jun-2000; LatestRevisionDate: 17-Jul-2002; LatestRevisionNote: Re-released for DXP Platform.; DatasheetDocument: Jan-1986; PackageReference: DO-205AA; Publisher: Altium Limited; ComponentLink1Description: Manufacturer Link; ComponentLink1URL: http://www.irf.com/; ComponentLink2Description: Datasheet; ComponentLink2URL: http://www.irf.com/product-info/datasheets/data/1N3288A.pdf
simulation model 1N3288A (DIODE)
signal-integrity model 1N3288A
pins: 1 A, 2 K

## 1N3289A
designator D?
100 Amp Average Silicon Rectifier Diode; Note: No PCB Footprint Available; Published: 8-Jun-2000; LatestRevisionDate: 17-Jul-2002; LatestRevisionNote: Re-released for DXP Platform.; DatasheetDocument: Jan-1986; PackageReference: DO-205AA; Publisher: Altium Limited; ComponentLink1Description: Manufacturer Link; ComponentLink1URL: http://www.irf.com/; ComponentLink2Description: Datasheet; ComponentLink2URL: http://www.irf.com/product-info/datasheets/data/1N3288A.pdf
simulation model 1N3289A (DIODE)
signal-integrity model 1N3289A
pins: 1 A, 2 K

## 1N3290A
designator D?
100 Amp Average Silicon Rectifier Diode; Note: No PCB Footprint Available; Published: 8-Jun-2000; LatestRevisionDate: 17-Jul-2002; LatestRevisionNote: Re-released for DXP Platform.; DatasheetDocument: Jan-1986; PackageReference: DO-205AA; Publisher: Altium Limited; ComponentLink1Description: Manufacturer Link; ComponentLink1URL: http://www.irf.com/; ComponentLink2Description: Datasheet; ComponentLink2URL: http://www.irf.com/product-info/datasheets/data/1N3288A.pdf
simulation model 1N3290A (DIODE)
signal-integrity model 1N3290A
pins: 1 A, 2 K

## 1N3291A
designator D?
100 Amp Average Silicon Rectifier Diode; Note: No PCB Footprint Available; Published: 8-Jun-2000; LatestRevisionDate: 17-Jul-2002; LatestRevisionNote: Re-released for DXP Platform.; DatasheetDocument: Jan-1986; PackageReference: DO-205AA; Publisher: Altium Limited; ComponentLink1Description: Manufacturer Link; ComponentLink1URL: http://www.irf.com/; ComponentLink2Description: Datasheet; ComponentLink2URL: http://www.irf.com/product-info/datasheets/data/1N3288A.pdf
simulation model 1N3291A (DIODE)
signal-integrity model 1N3291A
pins: 1 A, 2 K

## 1N3292B
designator D?
100 Amp Average Silicon Rectifier Diode; Note: No PCB Footprint Available; Published: 8-Jun-2000; LatestRevisionDate: 17-Jul-2002; LatestRevisionNote: Re-released for DXP Platform.; DatasheetDocument: Jan-1986; PackageReference: DO-205AA; Publisher: Altium Limited; ComponentLink1Description: Manufacturer Link; ComponentLink1URL: http://www.irf.com/; ComponentLink2Description: Datasheet; ComponentLink2URL: http://www.irf.com/product-info/datasheets/data/1N3288A.pdf
simulation model 1N3292B (DIODE)
signal-integrity model 1N3292B
pins: 1 A, 2 K

## 1N3293A
designator D?
100 Amp Average Silicon Rectifier Diode; Note: No PCB Footprint Available; Published: 8-Jun-2000; LatestRevisionDate: 17-Jul-2002; LatestRevisionNote: Re-released for DXP Platform.; DatasheetDocument: Jan-1986; PackageReference: DO-205AA; Publisher: Altium Limited; ComponentLink1Description: Manufacturer Link; ComponentLink1URL: http://www.irf.com/; ComponentLink2Description: Datasheet; ComponentLink2URL: http://www.irf.com/product-info/datasheets/data/1N3288A.pdf
simulation model 1N3293A (DIODE)
signal-integrity model 1N3293A
pins: 1 A, 2 K

## 1N3294A
designator D?
100 Amp Average Silicon Rectifier Diode; Note: No PCB Footprint Available; Published: 8-Jun-2000; LatestRevisionDate: 17-Jul-2002; LatestRevisionNote: Re-released for DXP Platform.; DatasheetDocument: Jan-1986; PackageReference: DO-205AA; Publisher: Altium Limited; ComponentLink1Description: Manufacturer Link; ComponentLink1URL: http://www.irf.com/; ComponentLink2Description: Datasheet; ComponentLink2URL: http://www.irf.com/product-info/datasheets/data/1N3288A.pdf
simulation model 1N3294A (DIODE)
signal-integrity model 1N3294A
pins: 1 A, 2 K

## 1N3295A
designator D?
100 Amp Average Silicon Rectifier Diode; Note: No PCB Footprint Available; Published: 8-Jun-2000; LatestRevisionDate: 17-Jul-2002; LatestRevisionNote: Re-released for DXP Platform.; DatasheetDocument: Jan-1986; PackageReference: DO-205AA; Publisher: Altium Limited; ComponentLink1Description: Manufacturer Link; ComponentLink1URL: http://www.irf.com/; ComponentLink2Description: Datasheet; ComponentLink2URL: http://www.irf.com/product-info/datasheets/data/1N3288A.pdf
simulation model 1N3295A (DIODE)
signal-integrity model 1N3295A
pins: 1 A, 2 K

## 1N3296A
designator D?
100 Amp Average Silicon Rectifier Diode; Note: No PCB Footprint Available; Published: 8-Jun-2000; LatestRevisionDate: 17-Jul-2002; LatestRevisionNote: Re-released for DXP Platform.; DatasheetDocument: Jan-1986; PackageReference: DO-205AA; Publisher: Altium Limited; ComponentLink1Description: Manufacturer Link; ComponentLink1URL: http://www.irf.com/; ComponentLink2Description: Datasheet; ComponentLink2URL: http://www.irf.com/product-info/datasheets/data/1N3288A.pdf
simulation model 1N3296A (DIODE)
signal-integrity model 1N3296A
pins: 1 A, 2 K

## 1N3670A
designator D?
12 Amp Medium Power Silicon Rectifier Diode; Note: No PCB Footprint Available; Published: 8-Jun-2000; LatestRevisionDate: 17-Jul-2002; LatestRevisionNote: Re-released for DXP Platform.; DatasheetDocument: PD-2.084; PackageReference: DO-203AA; Publisher: Altium Limited; ComponentLink1Description: Manufacturer Link; ComponentLink1URL: http://www.irf.com/; ComponentLink2Description: Datasheet; ComponentLink2URL: http://www.irf.com/product-info/datasheets/data/1n1199a.pdf
simulation model 1N3670A (DIODE)
signal-integrity model 1N3670A
pins: 1 A, 2 K

## 1N3671A
designator D?
12 Amp Medium Power Silicon Rectifier Diode; Note: No PCB Footprint Available; Published: 8-Jun-2000; LatestRevisionDate: 17-Jul-2002; LatestRevisionNote: Re-released for DXP Platform.; DatasheetDocument: PD-2.084; PackageReference: DO-203AA; Publisher: Altium Limited; ComponentLink1Description: Manufacturer Link; ComponentLink1URL: http://www.irf.com/; ComponentLink2Description: Datasheet; ComponentLink2URL: http://www.irf.com/product-info/datasheets/data/1n1199a.pdf
simulation model 1N3671A (DIODE)
signal-integrity model 1N3671A
pins: 1 A, 2 K

## 1N3672A
designator D?
12 Amp Medium Power Silicon Rectifier Diode; Note: No PCB Footprint Available; Published: 8-Jun-2000; LatestRevisionDate: 17-Jul-2002; LatestRevisionNote: Re-released for DXP Platform.; DatasheetDocument: PD-2.084; PackageReference: DO-203AA; Publisher: Altium Limited; ComponentLink1Description: Manufacturer Link; ComponentLink1URL: http://www.irf.com/; ComponentLink2Description: Datasheet; ComponentLink2URL: http://www.irf.com/product-info/datasheets/data/1n1199a.pdf
simulation model 1N3672A (DIODE)
signal-integrity model 1N3672A
pins: 1 A, 2 K

## 1N3673A
designator D?
12 Amp Medium Power Silicon Rectifier Diode; Note: No PCB Footprint Available; Published: 8-Jun-2000; LatestRevisionDate: 17-Jul-2002; LatestRevisionNote: Re-released for DXP Platform.; DatasheetDocument: PD-2.084; PackageReference: DO-203AA; Publisher: Altium Limited; ComponentLink1Description: Manufacturer Link; ComponentLink1URL: http://www.irf.com/; ComponentLink2Description: Datasheet; ComponentLink2URL: http://www.irf.com/product-info/datasheets/data/1n1199a.pdf
simulation model 1N3673A (DIODE)
signal-integrity model 1N3673A
pins: 1 A, 2 K

## 1N3735
designator D?
250 Amp Avg Power Silicon Rectifier Diode; Note: No PCB Footprint Available; Published: 8-Jun-2000; LatestRevisionDate: 17-Jul-2002; LatestRevisionNote: Re-released for DXP Platform.; DatasheetDocument: PD-2.018C; PackageReference: DO-205AB; Publisher: Altium Limited; ComponentLink1Description: Manufacturer Link; ComponentLink1URL: http://www.irf.com/; ComponentLink2Description: Datasheet; ComponentLink2URL: http://www.irf.com/product-info/datasheets/data/1n2054.pdf
simulation model 1N3735 (DIODE)
signal-integrity model 1N3735
pins: 1 A, 2 K

## 1N3736
designator D?
250 Amp Avg Power Silicon Rectifier Diode; Note: No PCB Footprint Available; Published: 8-Jun-2000; LatestRevisionDate: 17-Jul-2002; LatestRevisionNote: Re-released for DXP Platform.; DatasheetDocument: PD-2.018C; PackageReference: DO-205AB; Publisher: Altium Limited; ComponentLink1Description: Manufacturer Link; ComponentLink1URL: http://www.irf.com/; ComponentLink2Description: Datasheet; ComponentLink2URL: http://www.irf.com/product-info/datasheets/data/1n2054.pdf
simulation model 1N3736 (DIODE)
signal-integrity model 1N3736
pins: 1 A, 2 K

## 1N3737
designator D?
250 Amp Avg Power Silicon Rectifier Diode; Note: No PCB Footprint Available; Published: 8-Jun-2000; LatestRevisionDate: 17-Jul-2002; LatestRevisionNote: Re-released for DXP Platform.; DatasheetDocument: PD-2.018C; PackageReference: DO-205AB; Publisher: Altium Limited; ComponentLink1Description: Manufacturer Link; ComponentLink1URL: http://www.irf.com/; ComponentLink2Description: Datasheet; ComponentLink2URL: http://www.irf.com/product-info/datasheets/data/1n2054.pdf
simulation model 1N3737 (DIODE)
signal-integrity model 1N3737
pins: 1 A, 2 K

## 1N3738
designator D?
250 Amp Avg Power Silicon Rectifier Diode; Note: No PCB Footprint Available; Published: 8-Jun-2000; LatestRevisionDate: 17-Jul-2002; LatestRevisionNote: Re-released for DXP Platform.; DatasheetDocument: PD-2.018C; PackageReference: DO-205AB; Publisher: Altium Limited; ComponentLink1Description: Manufacturer Link; ComponentLink1URL: http://www.irf.com/; ComponentLink2Description: Datasheet; ComponentLink2URL: http://www.irf.com/product-info/datasheets/data/1n2054.pdf
simulation model 1N3738 (DIODE)
signal-integrity model 1N3738
pins: 1 A, 2 K

## 1N3739
designator D?
250 Amp Avg Power Silicon Rectifier Diode; Note: No PCB Footprint Available; Published: 8-Jun-2000; LatestRevisionDate: 17-Jul-2002; LatestRevisionNote: Re-released for DXP Platform.; DatasheetDocument: PD-2.018C; PackageReference: DO-205AB; Publisher: Altium Limited; ComponentLink1Description: Manufacturer Link; ComponentLink1URL: http://www.irf.com/; ComponentLink2Description: Datasheet; ComponentLink2URL: http://www.irf.com/product-info/datasheets/data/1n2054.pdf
simulation model 1N3739 (DIODE)
signal-integrity model 1N3739
pins: 1 A, 2 K

## 1N3740
designator D?
250 Amp Avg Power Silicon Rectifier Diode; Note: No PCB Footprint Available; Published: 8-Jun-2000; LatestRevisionDate: 17-Jul-2002; LatestRevisionNote: Re-released for DXP Platform.; DatasheetDocument: PD-2.018C; PackageReference: DO-205AB; Publisher: Altium Limited; ComponentLink1Description: Manufacturer Link; ComponentLink1URL: http://www.irf.com/; ComponentLink2Description: Datasheet; ComponentLink2URL: http://www.irf.com/product-info/datasheets/data/1n2054.pdf
simulation model 1N3740 (DIODE)
signal-integrity model 1N3740
pins: 1 A, 2 K

## 1N3741
designator D?
250 Amp Avg Power Silicon Rectifier Diode; Note: No PCB Footprint Available; Published: 8-Jun-2000; LatestRevisionDate: 17-Jul-2002; LatestRevisionNote: Re-released for DXP Platform.; DatasheetDocument: PD-2.018C; PackageReference: DO-205AB; Publisher: Altium Limited; ComponentLink1Description: Manufacturer Link; ComponentLink1URL: http://www.irf.com/; ComponentLink2Description: Datasheet; ComponentLink2URL: http://www.irf.com/product-info/datasheets/data/1n2054.pdf
simulation model 1N3741 (DIODE)
signal-integrity model 1N3741
pins: 1 A, 2 K

## 1N3742
designator D?
250 Amp Avg Power Silicon Rectifier Diode; Note: No PCB Footprint Available; Published: 8-Jun-2000; LatestRevisionDate: 17-Jul-2002; LatestRevisionNote: Re-released for DXP Platform.; DatasheetDocument: PD-2.018C; PackageReference: DO-205AB; Publisher: Altium Limited; ComponentLink1Description: Manufacturer Link; ComponentLink1URL: http://www.irf.com/; ComponentLink2Description: Datasheet; ComponentLink2URL: http://www.irf.com/product-info/datasheets/data/1n2054.pdf
simulation model 1N3742 (DIODE)
signal-integrity model 1N3742
pins: 1 A, 2 K

## 1N3743
designator D?
250 Amp Avg Power Silicon Rectifier Diode; Note: No PCB Footprint Available; Published: 8-Jun-2000; LatestRevisionDate: 17-Jul-2002; LatestRevisionNote: Re-released for DXP Platform.; DatasheetDocument: PD-2.018C; PackageReference: DO-205AB; Publisher: Altium Limited; ComponentLink1Description: Manufacturer Link; ComponentLink1URL: http://www.irf.com/; ComponentLink2Description: Datasheet; ComponentLink2URL: http://www.irf.com/product-info/datasheets/data/1n2054.pdf
simulation model 1N3743 (DIODE)
signal-integrity model 1N3743
pins: 1 A, 2 K

## 1N3765
designator D?
Silicon Rectifier Diode; Note: No PCB Footprint Available; Published: 8-Jun-2000; LatestRevisionDate: 17-Jul-2002; LatestRevisionNote: Re-released for DXP Platform.; DatasheetDocument: PD-2.087; PackageReference: DO-203AB; Publisher: Altium Limited; ComponentLink1Description: Manufacturer Link; ComponentLink1URL: http://www.irf.com/; ComponentLink2Description: Datasheet; ComponentLink2URL: http://www.irf.com/product-info/datasheets/data/1n1183.pdf
simulation model 1N3765 (DIODE)
signal-integrity model 1N3765
pins: 1 A, 2 K

## 1N3766
designator D?
Silicon Rectifier Diode; Note: No PCB Footprint Available; Published: 8-Jun-2000; LatestRevisionDate: 17-Jul-2002; LatestRevisionNote: Re-released for DXP Platform.; DatasheetDocument: PD-2.087; PackageReference: DO-203AB; Publisher: Altium Limited; ComponentLink1Description: Manufacturer Link; ComponentLink1URL: http://www.irf.com/; ComponentLink2Description: Datasheet; ComponentLink2URL: http://www.irf.com/product-info/datasheets/data/1n1183.pdf
simulation model 1N3766 (DIODE)
signal-integrity model 1N3766
pins: 1 A, 2 K

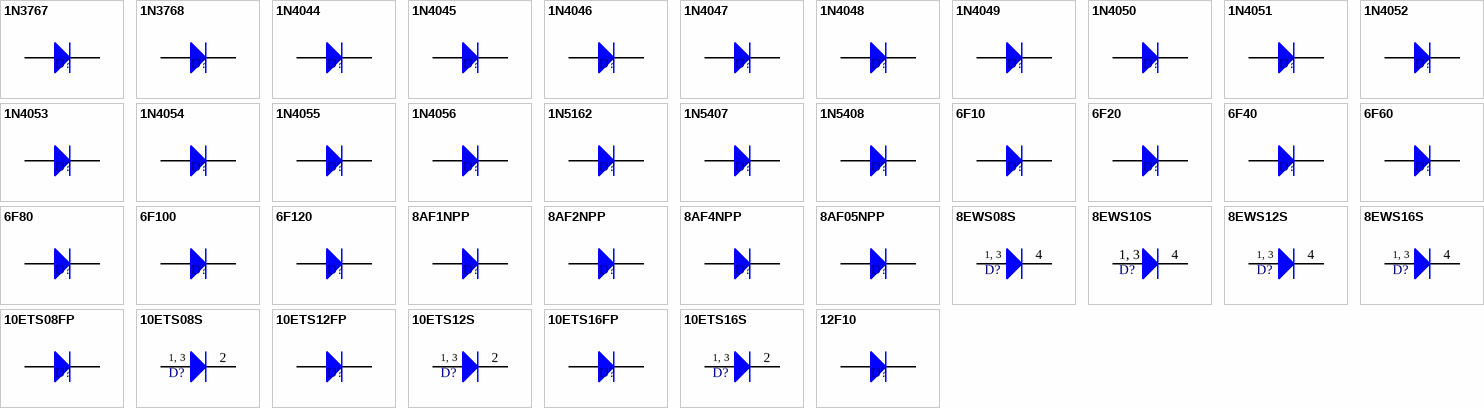
[diagram p2: symbols 1N3767 to 12F10]

## 1N3767
designator D?
Silicon Rectifier Diode; Note: No PCB Footprint Available; Published: 8-Jun-2000; LatestRevisionDate: 17-Jul-2002; LatestRevisionNote: Re-released for DXP Platform.; DatasheetDocument: PD-2.087; PackageReference: DO-203AB; Publisher: Altium Limited; ComponentLink1Description: Manufacturer Link; ComponentLink1URL: http://www.irf.com/; ComponentLink2Description: Datasheet; ComponentLink2URL: http://www.irf.com/product-info/datasheets/data/1n1183.pdf
simulation model 1N3767 (DIODE)
signal-integrity model 1N3767
pins: 1 A, 2 K

## 1N3768
designator D?
Silicon Rectifier Diode; Note: No PCB Footprint Available; Published: 8-Jun-2000; LatestRevisionDate: 17-Jul-2002; LatestRevisionNote: Re-released for DXP Platform.; DatasheetDocument: PD-2.087; PackageReference: DO-203AB; Publisher: Altium Limited; ComponentLink1Description: Manufacturer Link; ComponentLink1URL: http://www.irf.com/; ComponentLink2Description: Datasheet; ComponentLink2URL: http://www.irf.com/product-info/datasheets/data/1n1183.pdf
simulation model 1N3768 (DIODE)
signal-integrity model 1N3768
pins: 1 A, 2 K

## 1N4044
designator D?
275 Amp Avg Power Silicon Rectifier Diode; Note: No PCB Footprint Available; Published: 8-Jun-2000; LatestRevisionDate: 17-Jul-2002; LatestRevisionNote: Re-released for DXP Platform.; DatasheetDocument: PD-2.091; PackageReference: DO-205AB; Publisher: Altium Limited; ComponentLink1Description: Manufacturer Link; ComponentLink1URL: http://www.irf.com/; ComponentLink2Description: Datasheet; ComponentLink2URL: http://www.irf.com/product-info/datasheets/data/1n4044.pdf
simulation model 1N4044 (DIODE)
signal-integrity model 1N4044
pins: 1 A, 2 K

## 1N4045
designator D?
275 Amp Avg Power Silicon Rectifier Diode; Note: No PCB Footprint Available; Published: 8-Jun-2000; LatestRevisionDate: 17-Jul-2002; LatestRevisionNote: Re-released for DXP Platform.; DatasheetDocument: PD-2.091; PackageReference: DO-205AB; Publisher: Altium Limited; ComponentLink1Description: Manufacturer Link; ComponentLink1URL: http://www.irf.com/; ComponentLink2Description: Datasheet; ComponentLink2URL: http://www.irf.com/product-info/datasheets/data/1n4044.pdf
simulation model 1N4045 (DIODE)
signal-integrity model 1N4045
pins: 1 A, 2 K

## 1N4046
designator D?
275 Amp Avg Power Silicon Rectifier Diode; Note: No PCB Footprint Available; Published: 8-Jun-2000; LatestRevisionDate: 17-Jul-2002; LatestRevisionNote: Re-released for DXP Platform.; DatasheetDocument: PD-2.091; PackageReference: DO-205AB; Publisher: Altium Limited; ComponentLink1Description: Manufacturer Link; ComponentLink1URL: http://www.irf.com/; ComponentLink2Description: Datasheet; ComponentLink2URL: http://www.irf.com/product-info/datasheets/data/1n4044.pdf
simulation model 1N4046 (DIODE)
signal-integrity model 1N4046
pins: 1 A, 2 K

## 1N4047
designator D?
275 Amp Avg Power Silicon Rectifier Diode; Note: No PCB Footprint Available; Published: 8-Jun-2000; LatestRevisionDate: 17-Jul-2002; LatestRevisionNote: Re-released for DXP Platform.; DatasheetDocument: PD-2.091; PackageReference: DO-205AB; Publisher: Altium Limited; ComponentLink1Description: Manufacturer Link; ComponentLink1URL: http://www.irf.com/; ComponentLink2Description: Datasheet; ComponentLink2URL: http://www.irf.com/product-info/datasheets/data/1n4044.pdf
simulation model 1N4047 (DIODE)
signal-integrity model 1N4047
pins: 1 A, 2 K

## 1N4048
designator D?
275 Amp Avg Power Silicon Rectifier Diode; Note: No PCB Footprint Available; Published: 8-Jun-2000; LatestRevisionDate: 17-Jul-2002; LatestRevisionNote: Re-released for DXP Platform.; DatasheetDocument: PD-2.091; PackageReference: DO-205AB; Publisher: Altium Limited; ComponentLink1Description: Manufacturer Link; ComponentLink1URL: http://www.irf.com/; ComponentLink2Description: Datasheet; ComponentLink2URL: http://www.irf.com/product-info/datasheets/data/1n4044.pdf
simulation model 1N4048 (DIODE)
signal-integrity model 1N4048
pins: 1 A, 2 K